# Altium schematic symbol library MCU_ST_STM32G0.SchLib: 228 symbols (part 5 of 5)
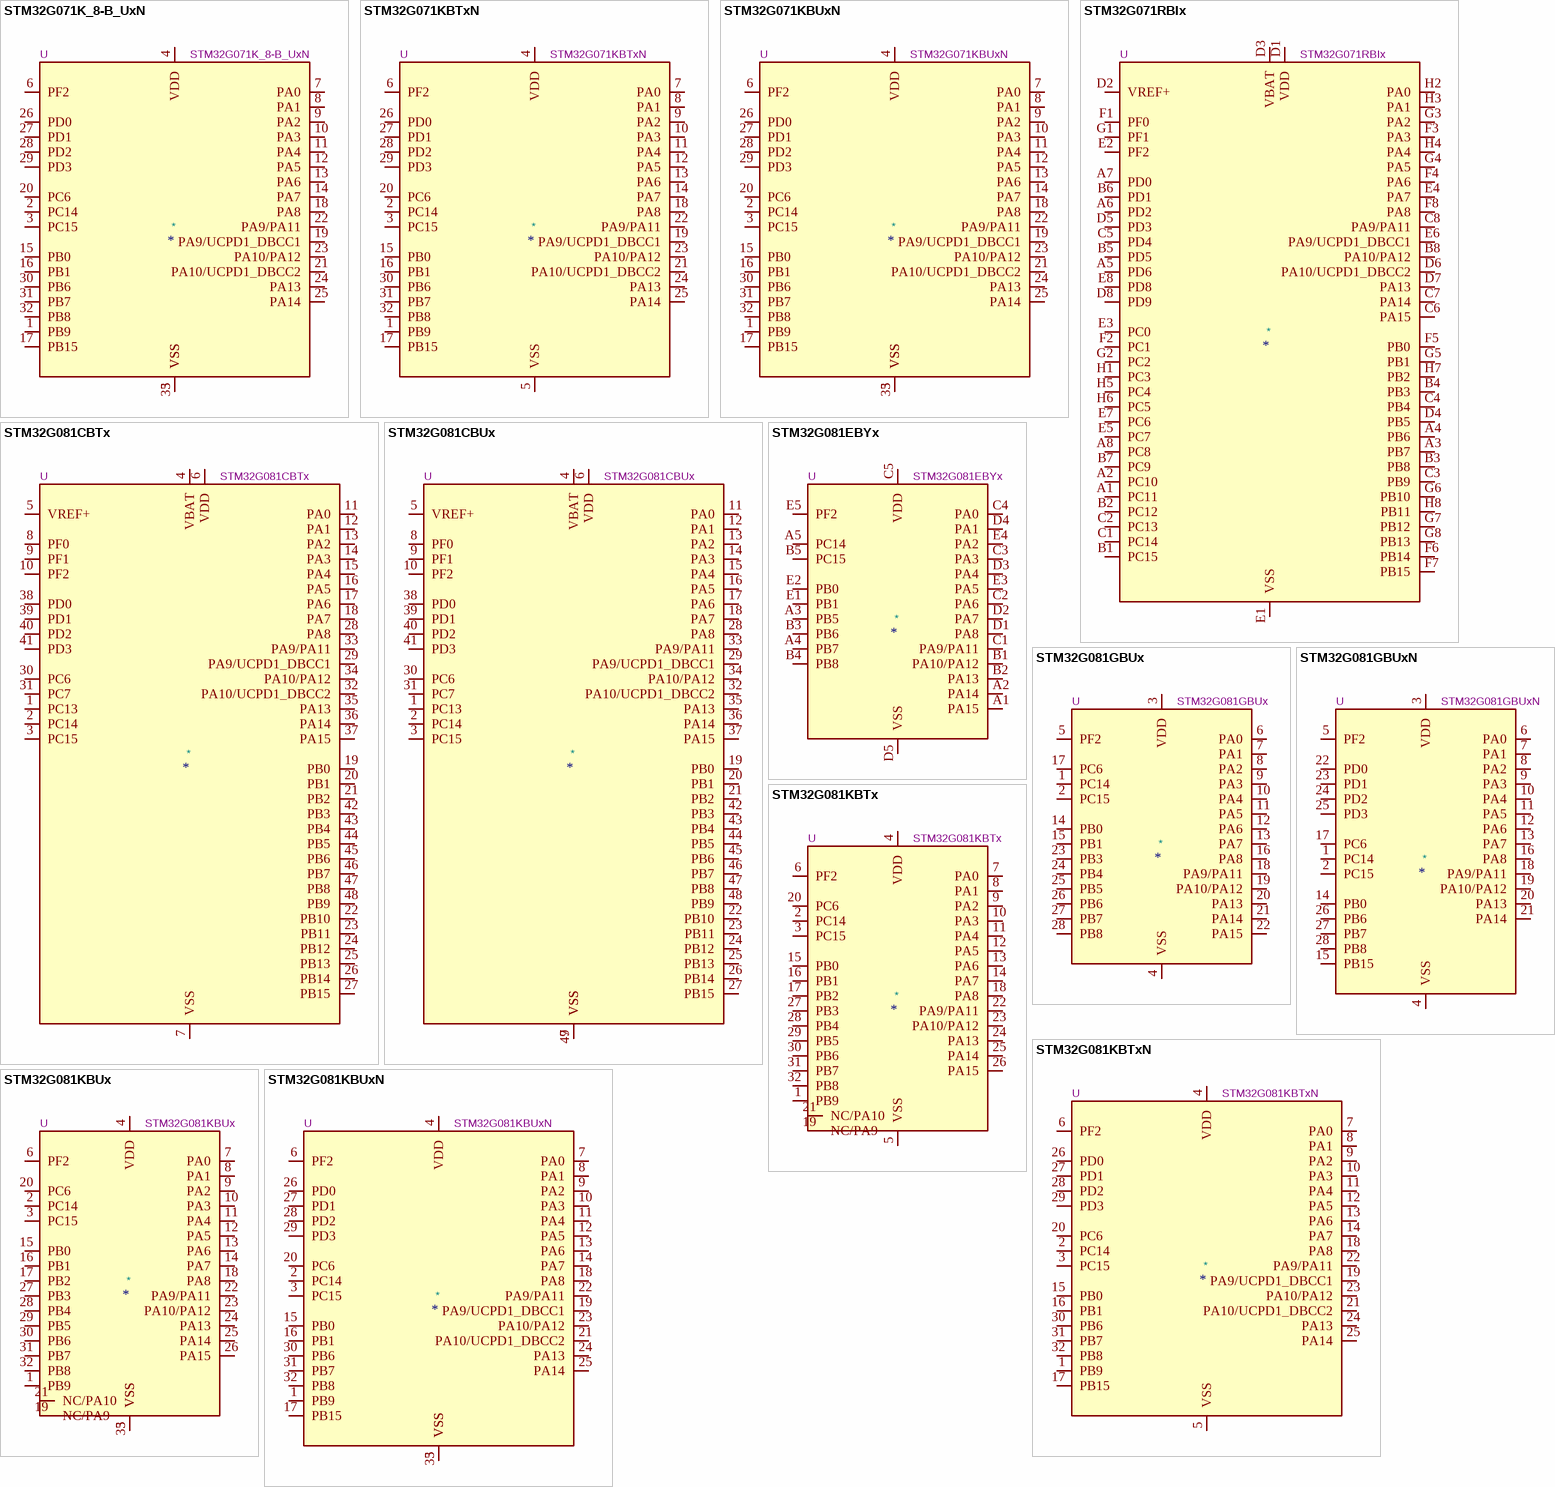
[diagram p27: symbols STM32G071K_8-B_UxN to STM32G081KBUxN]

## STM32G081KBTxN
designator *  value STM32G081KBTxN  Reference: U
STMicroelectronics Arm Cortex-M0+ MCU, 128KB flash, 36KB RAM, 64 MHz, 1.7-3.6V, 30 GPIO, LQFP32; ki_keywords: Arm Cortex-M0+ STM32G0 STM32G0x1; ki_fp_filters: LQFP*7x7mm*P0.8mm*; Footprint: Package_QFP:LQFP-32_7x7mm_P0.8mm; Datasheet: https://www.st.com/resource/en/datasheet/stm32g081kb.pdf; Description_: STMicroelectronics Arm Cortex-M0+ MCU, 128KB flash, 36KB RAM, 64 MHz, 1.7-3.6V, 30 GPIO, LQFP32
pins: 1 PB9, 2 PC14, 3 PC15, 4 VDD, 5 VSS, 6 PF2, 7 PA0, 8 PA1, 9 PA2, 10 PA3, 11 PA4, 12 PA5, 13 PA6, 14 PA7, 15 PB0, 16 PB1, 17 PB15, 18 PA8, 19 PA9/UCPD1_DBCC1, 20 PC6, 21 PA10/UCPD1_DBCC2, 22 PA9/PA11, 23 PA10/PA12, 24 PA13, 25 PA14, 26 PD0, 27 PD1, 28 PD2, 29 PD3, 30 PB6, 31 PB7, 32 PB8

## STM32G081KBUx
designator *  value STM32G081KBUx  Reference: U
STMicroelectronics Arm Cortex-M0+ MCU, 128KB flash, 36KB RAM, 64 MHz, 1.7-3.6V, 30 GPIO, UFQFPN32; ki_keywords: Arm Cortex-M0+ STM32G0 STM32G0x1; ki_fp_filters: QFN*1EP*5x5mm*P0.5mm*; Footprint: Package_DFN_QFN:QFN-32-1EP_5x5mm_P0.5mm_EP3.45x3.45mm; Datasheet: https://www.st.com/resource/en/datasheet/stm32g081kb.pdf; Description_: STMicroelectronics Arm Cortex-M0+ MCU, 128KB flash, 36KB RAM, 64 MHz, 1.7-3.6V, 30 GPIO, UFQFPN32
pins: 1 PB9, 2 PC14, 3 PC15, 4 VDD, 5 VSS, 6 PF2, 7 PA0, 8 PA1, 9 PA2, 10 PA3, 11 PA4, 12 PA5, 13 PA6, 14 PA7, 15 PB0, 16 PB1, 17 PB2, 18 PA8, 19 NC/PA9, 20 PC6, 21 NC/PA10, 22 PA9/PA11, 23 PA10/PA12, 24 PA13, 25 PA14, 26 PA15, 27 PB3, 28 PB4, 29 PB5, 30 PB6, 31 PB7, 32 PB8, 33 VSS

## STM32G081KBUxN
designator *  value STM32G081KBUxN  Reference: U
STMicroelectronics Arm Cortex-M0+ MCU, 128KB flash, 36KB RAM, 64 MHz, 1.7-3.6V, 30 GPIO, UFQFPN32; ki_keywords: Arm Cortex-M0+ STM32G0 STM32G0x1; ki_fp_filters: QFN*1EP*5x5mm*P0.5mm*; Footprint: Package_DFN_QFN:QFN-32-1EP_5x5mm_P0.5mm_EP3.45x3.45mm; Datasheet: https://www.st.com/resource/en/datasheet/stm32g081kb.pdf; Description_: STMicroelectronics Arm Cortex-M0+ MCU, 128KB flash, 36KB RAM, 64 MHz, 1.7-3.6V, 30 GPIO, UFQFPN32
pins: 1 PB9, 2 PC14, 3 PC15, 4 VDD, 5 VSS, 6 PF2, 7 PA0, 8 PA1, 9 PA2, 10 PA3, 11 PA4, 12 PA5, 13 PA6, 14 PA7, 15 PB0, 16 PB1, 17 PB15, 18 PA8, 19 PA9/UCPD1_DBCC1, 20 PC6, 21 PA10/UCPD1_DBCC2, 22 PA9/PA11, 23 PA10/PA12, 24 PA13, 25 PA14, 26 PD0, 27 PD1, 28 PD2, 29 PD3, 30 PB6, 31 PB7, 32 PB8, 33 VSS

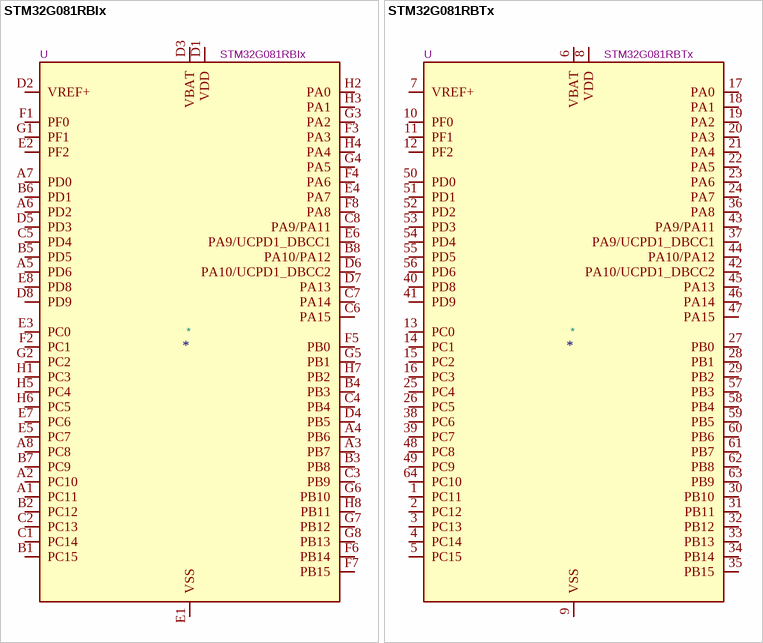
[diagram p23: symbols STM32G081RBIx to STM32G081RBTx]

## STM32G081RBIx
designator *  value STM32G081RBIx  Reference: U
STMicroelectronics Arm Cortex-M0+ MCU, 128KB flash, 36KB RAM, 64 MHz, 1.7-3.6V, 60 GPIO, UFBGA64; ki_keywords: Arm Cortex-M0+ STM32G0 STM32G0x1; ki_fp_filters: UFBGA*5x5mm*Layout8x8*P0.5mm*; Footprint: Package_BGA:UFBGA-64_5x5mm_Layout8x8_P0.5mm; Datasheet: https://www.st.com/resource/en/datasheet/stm32g081rb.pdf; Description_: STMicroelectronics Arm Cortex-M0+ MCU, 128KB flash, 36KB RAM, 64 MHz, 1.7-3.6V, 60 GPIO, UFBGA64
pins: A1 PC11, A2 PC10, A3 PB7, A4 PB6, A5 PD6, A6 PD2, A7 PD0, A8 PC8, B1 PC15, B2 PC12, B3 PB8, B4 PB3, B5 PD5, B6 PD1, B7 PC9, B8 PA10/PA12, C1 PC14, C2 PC13, C3 PB9, C4 PB4, C5 PD4, C6 PA15, C7 PA14, C8 PA9/PA11, D1 VDD, D2 VREF+, D3 VBAT, D4 PB5, D5 PD3, D6 PA10/UCPD1_DBCC2, D7 PA13, D8 PD9, E1 VSS, E2 PF2, E3 PC0, E4 PA7, E5 PC7, E6 PA9/UCPD1_DBCC1, E7 PC6, E8 PD8, F1 PF0, F2 PC1, F3 PA3, F4 PA6, F5 PB0, F6 PB14, F7 PB15, F8 PA8, G1 PF1, G2 PC2, G3 PA2, G4 PA5, G5 PB1, G6 PB10, G7 PB12, G8 PB13, H1 PC3, H2 PA0, H3 PA1, H4 PA4, H5 PC4, H6 PC5, H7 PB2, H8 PB11

## STM32G081RBTx
designator *  value STM32G081RBTx  Reference: U
STMicroelectronics Arm Cortex-M0+ MCU, 128KB flash, 36KB RAM, 64 MHz, 1.7-3.6V, 60 GPIO, LQFP64; ki_keywords: Arm Cortex-M0+ STM32G0 STM32G0x1; ki_fp_filters: LQFP*10x10mm*P0.5mm*; Footprint: Package_QFP:LQFP-64_10x10mm_P0.5mm; Datasheet: https://www.st.com/resource/en/datasheet/stm32g081rb.pdf; Description_: STMicroelectronics Arm Cortex-M0+ MCU, 128KB flash, 36KB RAM, 64 MHz, 1.7-3.6V, 60 GPIO, LQFP64
pins: 1 PC11, 2 PC12, 3 PC13, 4 PC14, 5 PC15, 6 VBAT, 7 VREF+, 8 VDD, 9 VSS, 10 PF0, 11 PF1, 12 PF2, 13 PC0, 14 PC1, 15 PC2, 16 PC3, 17 PA0, 18 PA1, 19 PA2, 20 PA3, 21 PA4, 22 PA5, 23 PA6, 24 PA7, 25 PC4, 26 PC5, 27 PB0, 28 PB1, 29 PB2, 30 PB10, 31 PB11, 32 PB12, 33 PB13, 34 PB14, 35 PB15, 36 PA8, 37 PA9/UCPD1_DBCC1, 38 PC6, 39 PC7, 40 PD8, 41 PD9, 42 PA10/UCPD1_DBCC2, 43 PA9/PA11, 44 PA10/PA12, 45 PA13, 46 PA14, 47 PA15, 48 PC8, 49 PC9, 50 PD0, 51 PD1, 52 PD2, 53 PD3, 54 PD4, 55 PD5, 56 PD6, 57 PB3, 58 PB4, 59 PB5, 60 PB6, 61 PB7, 62 PB8, 63 PB9, 64 PC10